# Altium footprint library C&K_PTS645SK43SMTR92 LFS.PcbLib: 1 footprints
Each footprint in its own frame and in the unit in brackets; x right, y up, seen from the top. Pads: shape width x height; smd on the part's side, far side on the other; paste and mask are expansions set on the pad; w line width, h text height; cw(c..) or ccw(c..) is an arc to the next point about the centre after c.
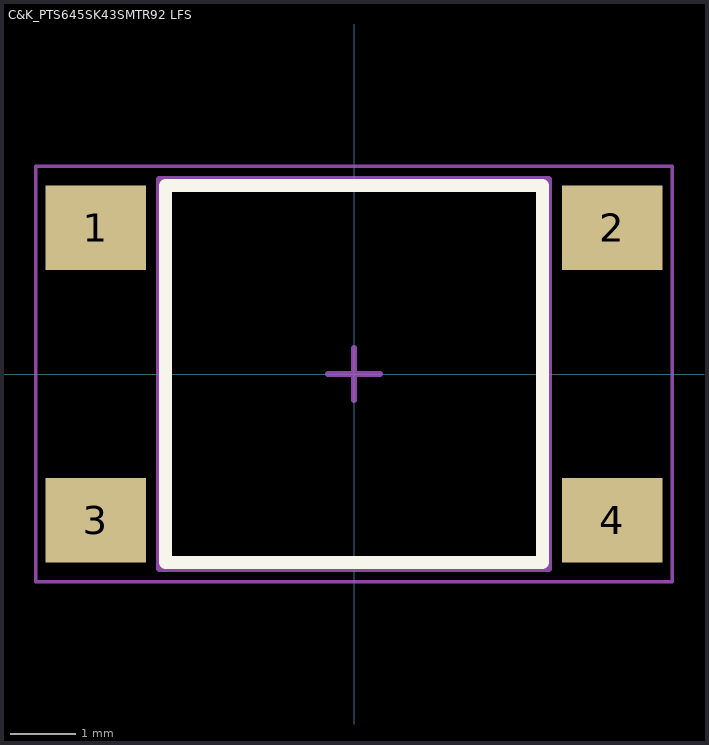
[diagram p0: the footprint, top view; thin cyan lines are the x and y axes]

## C&K_PTS645SK43SMTR92 LFS [mm] "C&K_PTS645SK43SMTR92 LFS"
height 4.3
pads (4):
  rect 1.55x1.3 smd mask+0.05: 1(-3.975,2.25) 2(3.975,2.25) 3(-3.975,-2.25) 4(3.975,-2.25)
Top Overlay:
  lines w0.2: -2.9,-2.9 -2.9,2.9 2.9,2.9 2.9,-2.9 -2.9,-2.9
Mechanical 13:
  lines w0.1: -3,-3 -3,3 3,3 3,-3 -3,-3
Mechanical 15:
  lines w0.05: -4.9,-3.2 -4.9,3.2 4.9,3.2 4.9,-3.2 -4.9,-3.2
  lines w0.1: -0.4,0 0.4,0 ; 0,-0.4 0,0.4
3D body "PTS645SK43SMTR92 LFS.STEP": height 4.3, standoff 0, extent -4.5,-3 4.5,3